# Altium schematic symbol library kmilo17pet-TI_RS232.SchLib: 1272 symbols (part 10 of 37)
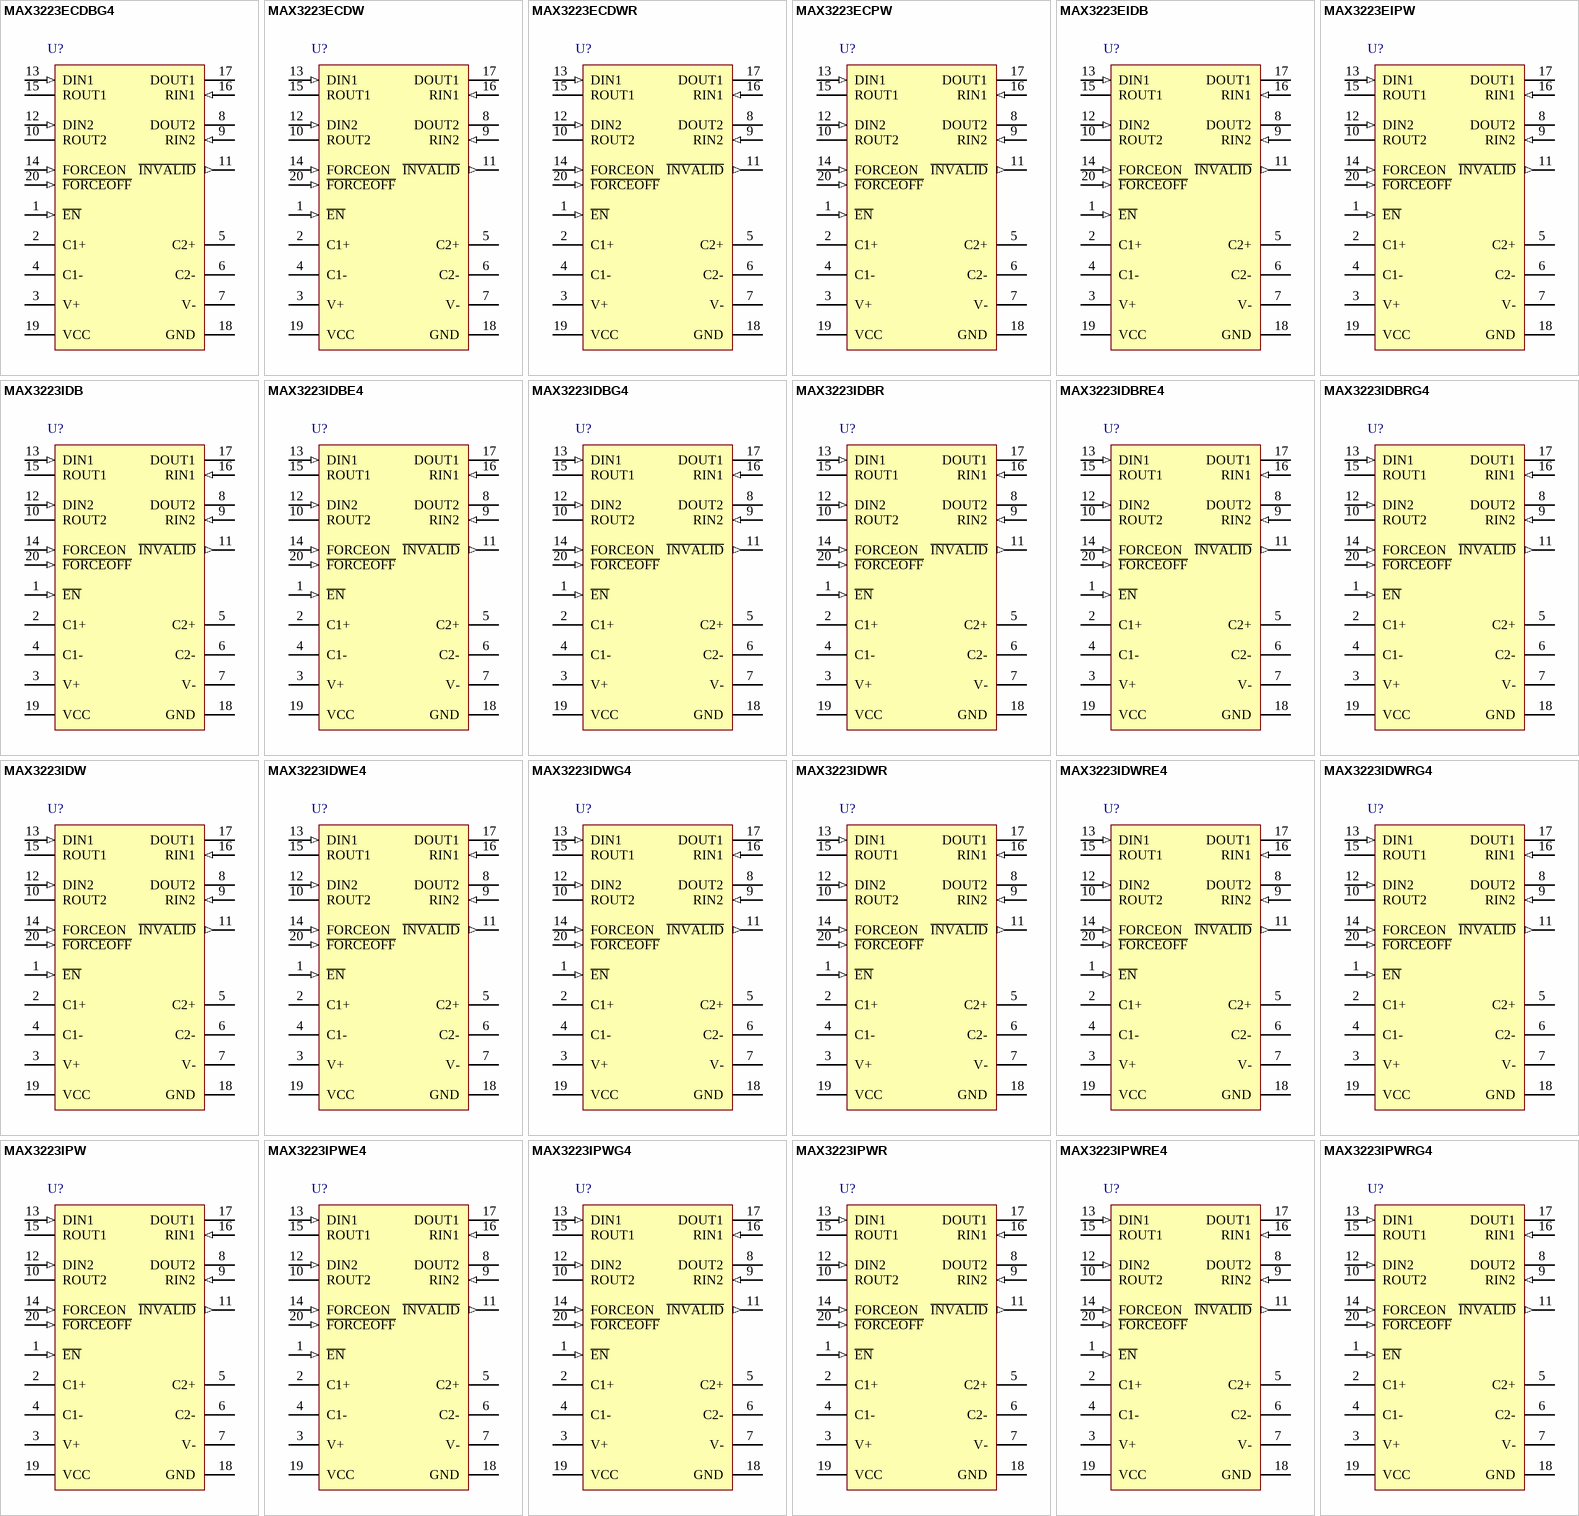
[diagram p63: symbols MAX3223ECDBG4 to MAX3223IPWRG4]

## MAX3223IDWG4
designator U?
3-V to 5.5-V Multichannel RS-232 Line Driver / Receiver with ±15-kV ESD Protection, -40 to 85 degC, 20-Pin SOIC (DW), Green (RoHS & no Sb/Br); Drivers Per Package: 2; Supply Voltage(s)(V): 3.3 or 5.0; ESD HBM(kV): +/-15; ICC(Max)(mA): 1; Single Supply: TRUE; DatasheetVersion: SLLS409K; PackageVersion: revG, Jan-2011; PackageReference: DW20; PackageDescription: 20-Pin Plastic Small Outline Integrated Circuit, 12.8 x 7.5 mm, Pitch 1.27 mm Pitch; SubFamily: RS-232; Receivers Per Package: 2; RS-232: TRUE; ComponentLink1Description: Manufacturer URL; ComponentLink1URL: www.ti.com; ComponentLink2Description: Datasheet; ComponentLink2URL: http://www.ti.com/general/docs/lit/getliterature.tsp?genericPartNumber=MAX3223&fileType=pdf; ComponentLink3Description: Package Specification; ComponentLink3URL: http://www.ti.com/litv/pdf/mpds173a
footprint TI-DW20_N (SOIC, 20-Leads, Body 12.8x7.5mm, Pitch 1.27mm, IPC Medium Density)
footprint TI-DW20_L (SOIC, 20-Leads, Body 12.8x7.5mm, Pitch 1.27mm, IPC High Density)
footprint TI-DW20_M (SOIC, 20-Leads, Body 12.8x7.5mm, Pitch 1.27mm, IPC Low Density)
pins: 1 ~{EN} (in), 2 C1+, 3 V+ (power), 4 C1-, 5 C2+, 6 C2-, 7 V- (power), 8 DOUT2 (hiz), 9 RIN2 (in), 10 ROUT2 (hiz), 11 ~{INVALID} (out), 12 DIN2 (in), 13 DIN1 (in), 14 FORCEON (in), 15 ROUT1 (hiz), 16 RIN1 (in), 17 DOUT1 (hiz), 18 GND (power), 19 VCC (power), 20 ~{FORCEOFF} (in)

## MAX3223IDWR
designator U?
3-V to 5.5-V Multichannel RS-232 Line Driver / Receiver with ±15-kV ESD Protection, -40 to 85 degC, 20-Pin SOIC (DW), Green (RoHS & no Sb/Br); Drivers Per Package: 2; Supply Voltage(s)(V): 3.3 or 5.0; ESD HBM(kV): +/-15; ICC(Max)(mA): 1; Single Supply: TRUE; DatasheetVersion: SLLS409K; PackageVersion: revG, Jan-2011; PackageReference: DW20; PackageDescription: 20-Pin Plastic Small Outline Integrated Circuit, 12.8 x 7.5 mm, Pitch 1.27 mm Pitch; SubFamily: RS-232; Receivers Per Package: 2; RS-232: TRUE; ComponentLink1Description: Manufacturer URL; ComponentLink1URL: www.ti.com; ComponentLink2Description: Datasheet; ComponentLink2URL: http://www.ti.com/general/docs/lit/getliterature.tsp?genericPartNumber=MAX3223&fileType=pdf; ComponentLink3Description: Package Specification; ComponentLink3URL: http://www.ti.com/litv/pdf/mpds173a
footprint TI-DW20_N (SOIC, 20-Leads, Body 12.8x7.5mm, Pitch 1.27mm, IPC Medium Density)
footprint TI-DW20_L (SOIC, 20-Leads, Body 12.8x7.5mm, Pitch 1.27mm, IPC High Density)
footprint TI-DW20_M (SOIC, 20-Leads, Body 12.8x7.5mm, Pitch 1.27mm, IPC Low Density)
pins: 1 ~{EN} (in), 2 C1+, 3 V+ (power), 4 C1-, 5 C2+, 6 C2-, 7 V- (power), 8 DOUT2 (hiz), 9 RIN2 (in), 10 ROUT2 (hiz), 11 ~{INVALID} (out), 12 DIN2 (in), 13 DIN1 (in), 14 FORCEON (in), 15 ROUT1 (hiz), 16 RIN1 (in), 17 DOUT1 (hiz), 18 GND (power), 19 VCC (power), 20 ~{FORCEOFF} (in)

## MAX3223IDWRE4
designator U?
3-V to 5.5-V Multichannel RS-232 Line Driver / Receiver with ±15-kV ESD Protection, -40 to 85 degC, 20-Pin SOIC (DW), Green (RoHS & no Sb/Br); Drivers Per Package: 2; Supply Voltage(s)(V): 3.3 or 5.0; ESD HBM(kV): +/-15; ICC(Max)(mA): 1; Single Supply: TRUE; DatasheetVersion: SLLS409K; PackageVersion: revG, Jan-2011; PackageReference: DW20; PackageDescription: 20-Pin Plastic Small Outline Integrated Circuit, 12.8 x 7.5 mm, Pitch 1.27 mm Pitch; SubFamily: RS-232; Receivers Per Package: 2; RS-232: TRUE; ComponentLink1Description: Manufacturer URL; ComponentLink1URL: www.ti.com; ComponentLink2Description: Datasheet; ComponentLink2URL: http://www.ti.com/general/docs/lit/getliterature.tsp?genericPartNumber=MAX3223&fileType=pdf; ComponentLink3Description: Package Specification; ComponentLink3URL: http://www.ti.com/litv/pdf/mpds173a
footprint TI-DW20_N (SOIC, 20-Leads, Body 12.8x7.5mm, Pitch 1.27mm, IPC Medium Density)
footprint TI-DW20_L (SOIC, 20-Leads, Body 12.8x7.5mm, Pitch 1.27mm, IPC High Density)
footprint TI-DW20_M (SOIC, 20-Leads, Body 12.8x7.5mm, Pitch 1.27mm, IPC Low Density)
pins: 1 ~{EN} (in), 2 C1+, 3 V+ (power), 4 C1-, 5 C2+, 6 C2-, 7 V- (power), 8 DOUT2 (hiz), 9 RIN2 (in), 10 ROUT2 (hiz), 11 ~{INVALID} (out), 12 DIN2 (in), 13 DIN1 (in), 14 FORCEON (in), 15 ROUT1 (hiz), 16 RIN1 (in), 17 DOUT1 (hiz), 18 GND (power), 19 VCC (power), 20 ~{FORCEOFF} (in)

## MAX3223IDWRG4
designator U?
3-V to 5.5-V Multichannel RS-232 Line Driver / Receiver with ±15-kV ESD Protection, -40 to 85 degC, 20-Pin SOIC (DW), Green (RoHS & no Sb/Br); Drivers Per Package: 2; Supply Voltage(s)(V): 3.3 or 5.0; ESD HBM(kV): +/-15; ICC(Max)(mA): 1; Single Supply: TRUE; DatasheetVersion: SLLS409K; PackageVersion: revG, Jan-2011; PackageReference: DW20; PackageDescription: 20-Pin Plastic Small Outline Integrated Circuit, 12.8 x 7.5 mm, Pitch 1.27 mm Pitch; SubFamily: RS-232; Receivers Per Package: 2; RS-232: TRUE; ComponentLink1Description: Manufacturer URL; ComponentLink1URL: www.ti.com; ComponentLink2Description: Datasheet; ComponentLink2URL: http://www.ti.com/general/docs/lit/getliterature.tsp?genericPartNumber=MAX3223&fileType=pdf; ComponentLink3Description: Package Specification; ComponentLink3URL: http://www.ti.com/litv/pdf/mpds173a
footprint TI-DW20_N (SOIC, 20-Leads, Body 12.8x7.5mm, Pitch 1.27mm, IPC Medium Density)
footprint TI-DW20_L (SOIC, 20-Leads, Body 12.8x7.5mm, Pitch 1.27mm, IPC High Density)
footprint TI-DW20_M (SOIC, 20-Leads, Body 12.8x7.5mm, Pitch 1.27mm, IPC Low Density)
pins: 1 ~{EN} (in), 2 C1+, 3 V+ (power), 4 C1-, 5 C2+, 6 C2-, 7 V- (power), 8 DOUT2 (hiz), 9 RIN2 (in), 10 ROUT2 (hiz), 11 ~{INVALID} (out), 12 DIN2 (in), 13 DIN1 (in), 14 FORCEON (in), 15 ROUT1 (hiz), 16 RIN1 (in), 17 DOUT1 (hiz), 18 GND (power), 19 VCC (power), 20 ~{FORCEOFF} (in)

## MAX3223IPW
designator U?
3-V to 5.5-V Multichannel RS-232 Line Driver / Receiver with ±15-kV ESD Protection, -40 to 85 degC, 20-Pin TSSOP (PW), Green (RoHS & no Sb/Br); Drivers Per Package: 2; Supply Voltage(s)(V): 3.3 or 5.0; ESD HBM(kV): +/-15; ICC(Max)(mA): 1; Single Supply: TRUE; DatasheetVersion: SLLS409K; PackageVersion: revG, Feb-2011; PackageReference: PW20; PackageDescription: 20-Pin Plastic Thin Small Outline Package 6.5 x 4.4 mm Body ,0.65 mm Pitch; SubFamily: RS-232; Receivers Per Package: 2; RS-232: TRUE; ComponentLink1Description: Manufacturer URL; ComponentLink1URL: www.ti.com; ComponentLink2Description: Datasheet; ComponentLink2URL: http://www.ti.com/general/docs/lit/getliterature.tsp?genericPartNumber=MAX3223&fileType=pdf; ComponentLink3Description: Package Specification; ComponentLink3URL: http://www.ti.com/litv/pdf/mpds362
footprint TI-PW20_N (TSOP, 20-Leads, Body 6.5x4.4mm, Pitch 0.65mm, IPC Medium Density)
footprint TI-PW20_L (TSOP, 20-Leads, Body 6.5x4.4mm, Pitch 0.65mm, IPC High Density)
footprint TI-PW20_M (TSOP, 20-Leads, Body 6.5x4.4mm, Pitch 0.65mm, IPC Low Density)
pins: 1 ~{EN} (in), 2 C1+, 3 V+ (power), 4 C1-, 5 C2+, 6 C2-, 7 V- (power), 8 DOUT2 (hiz), 9 RIN2 (in), 10 ROUT2 (hiz), 11 ~{INVALID} (out), 12 DIN2 (in), 13 DIN1 (in), 14 FORCEON (in), 15 ROUT1 (hiz), 16 RIN1 (in), 17 DOUT1 (hiz), 18 GND (power), 19 VCC (power), 20 ~{FORCEOFF} (in)

## MAX3223IPWE4
designator U?
3-V to 5.5-V Multichannel RS-232 Line Driver / Receiver with ±15-kV ESD Protection, -40 to 85 degC, 20-Pin TSSOP (PW), Green (RoHS & no Sb/Br); Drivers Per Package: 2; Supply Voltage(s)(V): 3.3 or 5.0; ESD HBM(kV): +/-15; ICC(Max)(mA): 1; Single Supply: TRUE; DatasheetVersion: SLLS409K; PackageVersion: revG, Feb-2011; PackageReference: PW20; PackageDescription: 20-Pin Plastic Thin Small Outline Package 6.5 x 4.4 mm Body ,0.65 mm Pitch; SubFamily: RS-232; Receivers Per Package: 2; RS-232: TRUE; ComponentLink1Description: Manufacturer URL; ComponentLink1URL: www.ti.com; ComponentLink2Description: Datasheet; ComponentLink2URL: http://www.ti.com/general/docs/lit/getliterature.tsp?genericPartNumber=MAX3223&fileType=pdf; ComponentLink3Description: Package Specification; ComponentLink3URL: http://www.ti.com/litv/pdf/mpds362
footprint TI-PW20_N (TSOP, 20-Leads, Body 6.5x4.4mm, Pitch 0.65mm, IPC Medium Density)
footprint TI-PW20_L (TSOP, 20-Leads, Body 6.5x4.4mm, Pitch 0.65mm, IPC High Density)
footprint TI-PW20_M (TSOP, 20-Leads, Body 6.5x4.4mm, Pitch 0.65mm, IPC Low Density)
pins: 1 ~{EN} (in), 2 C1+, 3 V+ (power), 4 C1-, 5 C2+, 6 C2-, 7 V- (power), 8 DOUT2 (hiz), 9 RIN2 (in), 10 ROUT2 (hiz), 11 ~{INVALID} (out), 12 DIN2 (in), 13 DIN1 (in), 14 FORCEON (in), 15 ROUT1 (hiz), 16 RIN1 (in), 17 DOUT1 (hiz), 18 GND (power), 19 VCC (power), 20 ~{FORCEOFF} (in)

## MAX3223IPWG4
designator U?
3-V to 5.5-V Multichannel RS-232 Line Driver / Receiver with ±15-kV ESD Protection, -40 to 85 degC, 20-Pin TSSOP (PW), Green (RoHS & no Sb/Br); Drivers Per Package: 2; Supply Voltage(s)(V): 3.3 or 5.0; ESD HBM(kV): +/-15; ICC(Max)(mA): 1; Single Supply: TRUE; DatasheetVersion: SLLS409K; PackageVersion: revG, Feb-2011; PackageReference: PW20; PackageDescription: 20-Pin Plastic Thin Small Outline Package 6.5 x 4.4 mm Body ,0.65 mm Pitch; SubFamily: RS-232; Receivers Per Package: 2; RS-232: TRUE; ComponentLink1Description: Manufacturer URL; ComponentLink1URL: www.ti.com; ComponentLink2Description: Datasheet; ComponentLink2URL: http://www.ti.com/general/docs/lit/getliterature.tsp?genericPartNumber=MAX3223&fileType=pdf; ComponentLink3Description: Package Specification; ComponentLink3URL: http://www.ti.com/litv/pdf/mpds362
footprint TI-PW20_N (TSOP, 20-Leads, Body 6.5x4.4mm, Pitch 0.65mm, IPC Medium Density)
footprint TI-PW20_L (TSOP, 20-Leads, Body 6.5x4.4mm, Pitch 0.65mm, IPC High Density)
footprint TI-PW20_M (TSOP, 20-Leads, Body 6.5x4.4mm, Pitch 0.65mm, IPC Low Density)
pins: 1 ~{EN} (in), 2 C1+, 3 V+ (power), 4 C1-, 5 C2+, 6 C2-, 7 V- (power), 8 DOUT2 (hiz), 9 RIN2 (in), 10 ROUT2 (hiz), 11 ~{INVALID} (out), 12 DIN2 (in), 13 DIN1 (in), 14 FORCEON (in), 15 ROUT1 (hiz), 16 RIN1 (in), 17 DOUT1 (hiz), 18 GND (power), 19 VCC (power), 20 ~{FORCEOFF} (in)

## MAX3223IPWR
designator U?
3-V to 5.5-V Multichannel RS-232 Line Driver / Receiver with ±15-kV ESD Protection, -40 to 85 degC, 20-Pin TSSOP (PW), Green (RoHS & no Sb/Br); Drivers Per Package: 2; Supply Voltage(s)(V): 3.3 or 5.0; ESD HBM(kV): +/-15; ICC(Max)(mA): 1; Single Supply: TRUE; DatasheetVersion: SLLS409K; PackageVersion: revG, Feb-2011; PackageReference: PW20; PackageDescription: 20-Pin Plastic Thin Small Outline Package 6.5 x 4.4 mm Body ,0.65 mm Pitch; SubFamily: RS-232; Receivers Per Package: 2; RS-232: TRUE; ComponentLink1Description: Manufacturer URL; ComponentLink1URL: www.ti.com; ComponentLink2Description: Datasheet; ComponentLink2URL: http://www.ti.com/general/docs/lit/getliterature.tsp?genericPartNumber=MAX3223&fileType=pdf; ComponentLink3Description: Package Specification; ComponentLink3URL: http://www.ti.com/litv/pdf/mpds362
footprint TI-PW20_N (TSOP, 20-Leads, Body 6.5x4.4mm, Pitch 0.65mm, IPC Medium Density)
footprint TI-PW20_L (TSOP, 20-Leads, Body 6.5x4.4mm, Pitch 0.65mm, IPC High Density)
footprint TI-PW20_M (TSOP, 20-Leads, Body 6.5x4.4mm, Pitch 0.65mm, IPC Low Density)
pins: 1 ~{EN} (in), 2 C1+, 3 V+ (power), 4 C1-, 5 C2+, 6 C2-, 7 V- (power), 8 DOUT2 (hiz), 9 RIN2 (in), 10 ROUT2 (hiz), 11 ~{INVALID} (out), 12 DIN2 (in), 13 DIN1 (in), 14 FORCEON (in), 15 ROUT1 (hiz), 16 RIN1 (in), 17 DOUT1 (hiz), 18 GND (power), 19 VCC (power), 20 ~{FORCEOFF} (in)

## MAX3223IPWRE4
designator U?
3-V to 5.5-V Multichannel RS-232 Line Driver / Receiver with ±15-kV ESD Protection, -40 to 85 degC, 20-Pin TSSOP (PW), Green (RoHS & no Sb/Br); Drivers Per Package: 2; Supply Voltage(s)(V): 3.3 or 5.0; ESD HBM(kV): +/-15; ICC(Max)(mA): 1; Single Supply: TRUE; DatasheetVersion: SLLS409K; PackageVersion: revG, Feb-2011; PackageReference: PW20; PackageDescription: 20-Pin Plastic Thin Small Outline Package 6.5 x 4.4 mm Body ,0.65 mm Pitch; SubFamily: RS-232; Receivers Per Package: 2; RS-232: TRUE; ComponentLink1Description: Manufacturer URL; ComponentLink1URL: www.ti.com; ComponentLink2Description: Datasheet; ComponentLink2URL: http://www.ti.com/general/docs/lit/getliterature.tsp?genericPartNumber=MAX3223&fileType=pdf; ComponentLink3Description: Package Specification; ComponentLink3URL: http://www.ti.com/litv/pdf/mpds362
footprint TI-PW20_N (TSOP, 20-Leads, Body 6.5x4.4mm, Pitch 0.65mm, IPC Medium Density)
footprint TI-PW20_L (TSOP, 20-Leads, Body 6.5x4.4mm, Pitch 0.65mm, IPC High Density)
footprint TI-PW20_M (TSOP, 20-Leads, Body 6.5x4.4mm, Pitch 0.65mm, IPC Low Density)
pins: 1 ~{EN} (in), 2 C1+, 3 V+ (power), 4 C1-, 5 C2+, 6 C2-, 7 V- (power), 8 DOUT2 (hiz), 9 RIN2 (in), 10 ROUT2 (hiz), 11 ~{INVALID} (out), 12 DIN2 (in), 13 DIN1 (in), 14 FORCEON (in), 15 ROUT1 (hiz), 16 RIN1 (in), 17 DOUT1 (hiz), 18 GND (power), 19 VCC (power), 20 ~{FORCEOFF} (in)

## MAX3223IPWRG4
designator U?
3-V to 5.5-V Multichannel RS-232 Line Driver / Receiver with ±15-kV ESD Protection, -40 to 85 degC, 20-Pin TSSOP (PW), Green (RoHS & no Sb/Br); Drivers Per Package: 2; Supply Voltage(s)(V): 3.3 or 5.0; ESD HBM(kV): +/-15; ICC(Max)(mA): 1; Single Supply: TRUE; DatasheetVersion: SLLS409K; PackageVersion: revG, Feb-2011; PackageReference: PW20; PackageDescription: 20-Pin Plastic Thin Small Outline Package 6.5 x 4.4 mm Body ,0.65 mm Pitch; SubFamily: RS-232; Receivers Per Package: 2; RS-232: TRUE; ComponentLink1Description: Manufacturer URL; ComponentLink1URL: www.ti.com; ComponentLink2Description: Datasheet; ComponentLink2URL: http://www.ti.com/general/docs/lit/getliterature.tsp?genericPartNumber=MAX3223&fileType=pdf; ComponentLink3Description: Package Specification; ComponentLink3URL: http://www.ti.com/litv/pdf/mpds362
footprint TI-PW20_N (TSOP, 20-Leads, Body 6.5x4.4mm, Pitch 0.65mm, IPC Medium Density)
footprint TI-PW20_L (TSOP, 20-Leads, Body 6.5x4.4mm, Pitch 0.65mm, IPC High Density)
footprint TI-PW20_M (TSOP, 20-Leads, Body 6.5x4.4mm, Pitch 0.65mm, IPC Low Density)
pins: 1 ~{EN} (in), 2 C1+, 3 V+ (power), 4 C1-, 5 C2+, 6 C2-, 7 V- (power), 8 DOUT2 (hiz), 9 RIN2 (in), 10 ROUT2 (hiz), 11 ~{INVALID} (out), 12 DIN2 (in), 13 DIN1 (in), 14 FORCEON (in), 15 ROUT1 (hiz), 16 RIN1 (in), 17 DOUT1 (hiz), 18 GND (power), 19 VCC (power), 20 ~{FORCEOFF} (in)

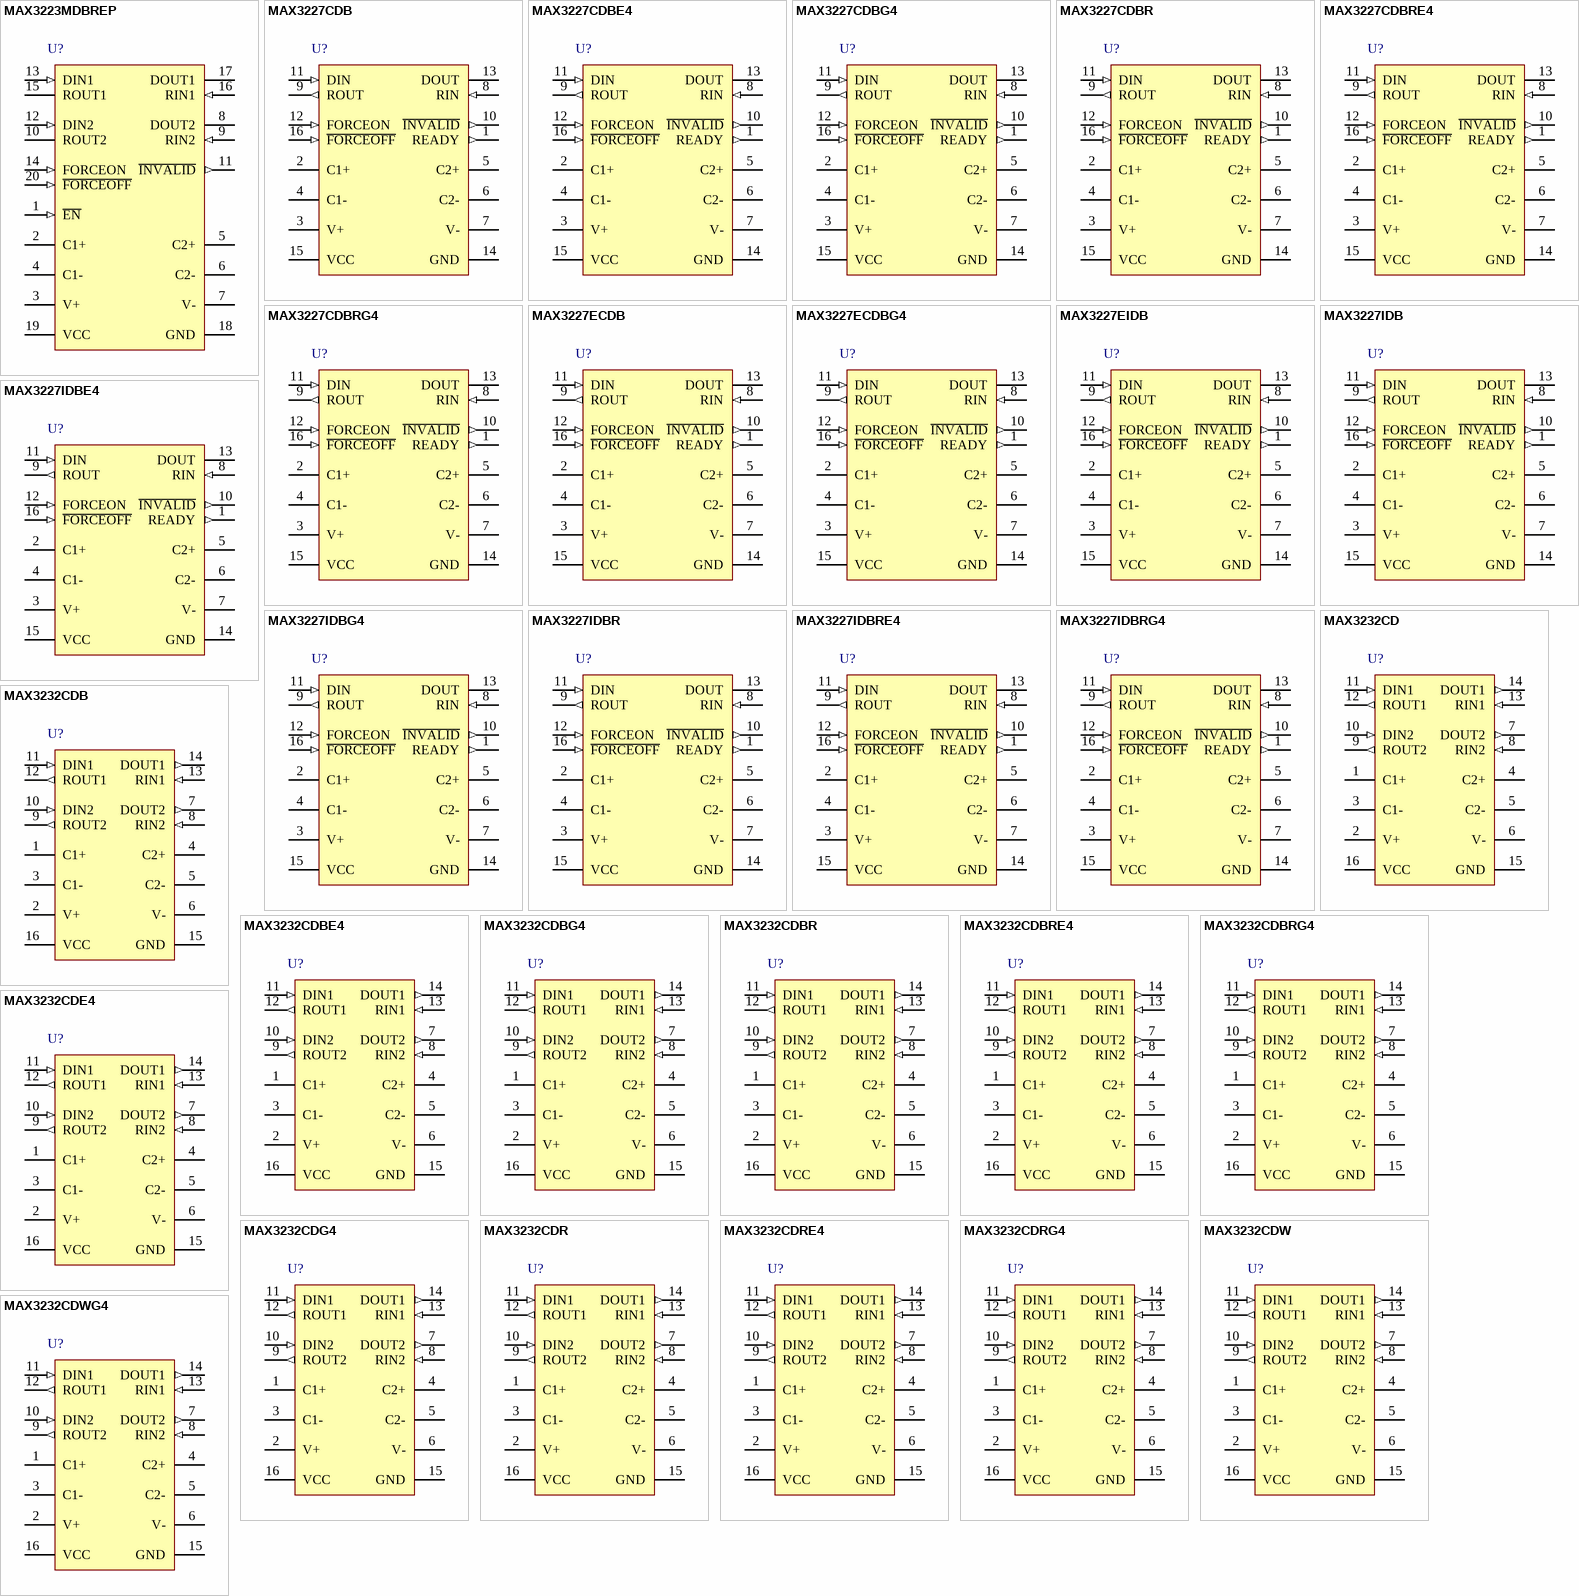
[diagram p14: symbols MAX3223MDBREP to MAX3232CDWG4]

## MAX3223MDBREP
designator U?
3-V to 5.5-V Multichannel RS-232 Line Driver / Receiver with ±15-kV ESD Protection, -55 to 125 degC, 20-Pin SSOP (DB), Green (RoHS & no Sb/Br); Drivers Per Package: 2; Supply Voltage(s)(V): 3.3 or 5.0; ESD HBM(kV): +/-15; ICC(Max)(mA): 1; Single Supply: TRUE; DatasheetVersion: SGLS368; PackageVersion: revE, Dec-2001; PackageReference: DB20; PackageDescription: 20-Pin Plastic Small Outline Package, 7.2 x 5.3 mm Body, 0.65 mm Pitch; SubFamily: RS-232; Receivers Per Package: 2; RS-232: TRUE; ComponentLink1Description: Manufacturer URL; ComponentLink1URL: www.ti.com; ComponentLink2Description: Datasheet; ComponentLink2URL: http://www.ti.com/general/docs/lit/getliterature.tsp?genericPartNumber=MAX3223-EP&fileType=pdf; ComponentLink3Description: Package Specification; ComponentLink3URL: http://www.ti.com/litv/pdf/msso002e
footprint TI-DB20_N (SOP, 20-Leads, Body 7.2x5.3mm, Pitch 0.65mm, IPC Medium Density)
footprint TI-DB20_L (SOP, 20-Leads, Body 7.2x5.3mm, Pitch 0.65mm, IPC High Density)
footprint TI-DB20_M (SOP, 20-Leads, Body 7.2x5.3mm, Pitch 0.65mm, IPC Low Density)
pins: 1 ~{EN} (in), 2 C1+, 3 V+ (power), 4 C1-, 5 C2+, 6 C2-, 7 V- (power), 8 DOUT2 (hiz), 9 RIN2 (in), 10 ROUT2 (hiz), 11 ~{INVALID} (out), 12 DIN2 (in), 13 DIN1 (in), 14 FORCEON (in), 15 ROUT1 (hiz), 16 RIN1 (in), 17 DOUT1 (hiz), 18 GND (power), 19 VCC (power), 20 ~{FORCEOFF} (in)

## MAX3227CDB
designator U?
3-V to 5.5-V Single-Channel RS-232 Line Driver / Receiver with ±15-kV ESD Protection, 0 to 70 degC, 16-Pin SSOP (DB), Green (RoHS & no Sb/Br); Drivers Per Package: 1; Supply Voltage(s)(V): 3.3 or 5.0; ESD HBM(kV): +/-15; ICC(Max)(mA): 2; Single Supply: TRUE; DatasheetVersion: SLLS673A; PackageVersion: revE, Dec-2001; PackageReference: DB16; PackageDescription: 16-Pin Plastic Small Outline Package, 6.2 x 5.3 mm Body, 0.65 mm Pitch; SubFamily: RS-232; Receivers Per Package: 1; RS-232: TRUE; ComponentLink1Description: Manufacturer URL; ComponentLink1URL: www.ti.com; ComponentLink2Description: Datasheet; ComponentLink2URL: http://www.ti.com/general/docs/lit/getliterature.tsp?genericPartNumber=MAX3227&fileType=pdf; ComponentLink3Description: Package Specification; ComponentLink3URL: http://www.ti.com/litv/pdf/msso002e
footprint TI-DB16_N (SOP, 16-Leads, Body 6.2x5.3mm, Pitch 0.65mm, IPC Medium Density)
footprint TI-DB16_L (SOP, 16-Leads, Body 6.2x5.3mm, Pitch 0.65mm, IPC High Density)
footprint TI-DB16_M (SOP, 16-Leads, Body 6.2x5.3mm, Pitch 0.65mm, IPC Low Density)
pins: 1 READY (out) "Ready to transmit output, active high. READY is enabled high when V- goes below -3.5 V and the device is ready to transmit.", 2 C1+ "Positive terminal of voltage-doubler charge-pump capacitor", 3 V+ (power) "+2 × VCC generated by the charge pump", 4 C1- "Negative terminal of voltage-doubler charge-pump capacitor", 5 C2+ "Positive terminal of inverting charge-pump capacitor", 6 C2- "Negative terminal of inverting charge-pump capacitor", 7 V- (power) "-2 × VCC generated by the charge pump", 8 RIN (in) "RS-232 receiver input", 9 ROUT (out) "CMOS receiver output", 10 ~{INVALID} (out) "Valid signal detector output, active low. A logic high indicates that a valid RS-232 level is present on a receiver input", 11 DIN (in) "CMOS driver input", 12 FORCEON (in) "Force-on input, active high. Drive high to override powerdown, keeping drivers and receivers on (FORCEOFF must be high) (see Function Table).", 13 DOUT (hiz) "RS-232 driver output", 14 GND (power) "Ground", 15 VCC (power) "3-V to 5.5-V single-supply voltage", 16 ~{FORCEOFF} (in) "Force-off input, active low. Drive low to shut down drivers, receivers, and charge pump. This overrides auto shutdown and FORCEON (see Function Table)."

## MAX3227CDBE4
designator U?
3-V to 5.5-V Single-Channel RS-232 Line Driver / Receiver with ±15-kV ESD Protection, 0 to 70 degC, 16-Pin SSOP (DB), Green (RoHS & no Sb/Br); Drivers Per Package: 1; Supply Voltage(s)(V): 3.3 or 5.0; ESD HBM(kV): +/-15; ICC(Max)(mA): 2; Single Supply: TRUE; DatasheetVersion: SLLS673A; PackageVersion: revE, Dec-2001; PackageReference: DB16; PackageDescription: 16-Pin Plastic Small Outline Package, 6.2 x 5.3 mm Body, 0.65 mm Pitch; SubFamily: RS-232; Receivers Per Package: 1; RS-232: TRUE; ComponentLink1Description: Manufacturer URL; ComponentLink1URL: www.ti.com; ComponentLink2Description: Datasheet; ComponentLink2URL: http://www.ti.com/general/docs/lit/getliterature.tsp?genericPartNumber=MAX3227&fileType=pdf; ComponentLink3Description: Package Specification; ComponentLink3URL: http://www.ti.com/litv/pdf/msso002e
footprint TI-DB16_N (SOP, 16-Leads, Body 6.2x5.3mm, Pitch 0.65mm, IPC Medium Density)
footprint TI-DB16_L (SOP, 16-Leads, Body 6.2x5.3mm, Pitch 0.65mm, IPC High Density)
footprint TI-DB16_M (SOP, 16-Leads, Body 6.2x5.3mm, Pitch 0.65mm, IPC Low Density)
pins: 1 READY (out) "Ready to transmit output, active high. READY is enabled high when V- goes below -3.5 V and the device is ready to transmit.", 2 C1+ "Positive terminal of voltage-doubler charge-pump capacitor", 3 V+ (power) "+2 × VCC generated by the charge pump", 4 C1- "Negative terminal of voltage-doubler charge-pump capacitor", 5 C2+ "Positive terminal of inverting charge-pump capacitor", 6 C2- "Negative terminal of inverting charge-pump capacitor", 7 V- (power) "-2 × VCC generated by the charge pump", 8 RIN (in) "RS-232 receiver input", 9 ROUT (out) "CMOS receiver output", 10 ~{INVALID} (out) "Valid signal detector output, active low. A logic high indicates that a valid RS-232 level is present on a receiver input", 11 DIN (in) "CMOS driver input", 12 FORCEON (in) "Force-on input, active high. Drive high to override powerdown, keeping drivers and receivers on (FORCEOFF must be high) (see Function Table).", 13 DOUT (hiz) "RS-232 driver output", 14 GND (power) "Ground", 15 VCC (power) "3-V to 5.5-V single-supply voltage", 16 ~{FORCEOFF} (in) "Force-off input, active low. Drive low to shut down drivers, receivers, and charge pump. This overrides auto shutdown and FORCEON (see Function Table)."

## MAX3227CDBG4
designator U?
3-V to 5.5-V Single-Channel RS-232 Line Driver / Receiver with ±15-kV ESD Protection, 0 to 70 degC, 16-Pin SSOP (DB), Green (RoHS & no Sb/Br); Drivers Per Package: 1; Supply Voltage(s)(V): 3.3 or 5.0; ESD HBM(kV): +/-15; ICC(Max)(mA): 2; Single Supply: TRUE; DatasheetVersion: SLLS673A; PackageVersion: revE, Dec-2001; PackageReference: DB16; PackageDescription: 16-Pin Plastic Small Outline Package, 6.2 x 5.3 mm Body, 0.65 mm Pitch; SubFamily: RS-232; Receivers Per Package: 1; RS-232: TRUE; ComponentLink1Description: Manufacturer URL; ComponentLink1URL: www.ti.com; ComponentLink2Description: Datasheet; ComponentLink2URL: http://www.ti.com/general/docs/lit/getliterature.tsp?genericPartNumber=MAX3227&fileType=pdf; ComponentLink3Description: Package Specification; ComponentLink3URL: http://www.ti.com/litv/pdf/msso002e
footprint TI-DB16_N (SOP, 16-Leads, Body 6.2x5.3mm, Pitch 0.65mm, IPC Medium Density)
footprint TI-DB16_L (SOP, 16-Leads, Body 6.2x5.3mm, Pitch 0.65mm, IPC High Density)
footprint TI-DB16_M (SOP, 16-Leads, Body 6.2x5.3mm, Pitch 0.65mm, IPC Low Density)
pins: 1 READY (out) "Ready to transmit output, active high. READY is enabled high when V- goes below -3.5 V and the device is ready to transmit.", 2 C1+ "Positive terminal of voltage-doubler charge-pump capacitor", 3 V+ (power) "+2 × VCC generated by the charge pump", 4 C1- "Negative terminal of voltage-doubler charge-pump capacitor", 5 C2+ "Positive terminal of inverting charge-pump capacitor", 6 C2- "Negative terminal of inverting charge-pump capacitor", 7 V- (power) "-2 × VCC generated by the charge pump", 8 RIN (in) "RS-232 receiver input", 9 ROUT (out) "CMOS receiver output", 10 ~{INVALID} (out) "Valid signal detector output, active low. A logic high indicates that a valid RS-232 level is present on a receiver input", 11 DIN (in) "CMOS driver input", 12 FORCEON (in) "Force-on input, active high. Drive high to override powerdown, keeping drivers and receivers on (FORCEOFF must be high) (see Function Table).", 13 DOUT (hiz) "RS-232 driver output", 14 GND (power) "Ground", 15 VCC (power) "3-V to 5.5-V single-supply voltage", 16 ~{FORCEOFF} (in) "Force-off input, active low. Drive low to shut down drivers, receivers, and charge pump. This overrides auto shutdown and FORCEON (see Function Table)."

## MAX3227CDBR
designator U?
3-V to 5.5-V Single-Channel RS-232 Line Driver / Receiver with ±15-kV ESD Protection, 0 to 70 degC, 16-Pin SSOP (DB), Green (RoHS & no Sb/Br); Drivers Per Package: 1; Supply Voltage(s)(V): 3.3 or 5.0; ESD HBM(kV): +/-15; ICC(Max)(mA): 2; Single Supply: TRUE; DatasheetVersion: SLLS673A; PackageVersion: revE, Dec-2001; PackageReference: DB16; PackageDescription: 16-Pin Plastic Small Outline Package, 6.2 x 5.3 mm Body, 0.65 mm Pitch; SubFamily: RS-232; Receivers Per Package: 1; RS-232: TRUE; ComponentLink1Description: Manufacturer URL; ComponentLink1URL: www.ti.com; ComponentLink2Description: Datasheet; ComponentLink2URL: http://www.ti.com/general/docs/lit/getliterature.tsp?genericPartNumber=MAX3227&fileType=pdf; ComponentLink3Description: Package Specification; ComponentLink3URL: http://www.ti.com/litv/pdf/msso002e
footprint TI-DB16_N (SOP, 16-Leads, Body 6.2x5.3mm, Pitch 0.65mm, IPC Medium Density)
footprint TI-DB16_L (SOP, 16-Leads, Body 6.2x5.3mm, Pitch 0.65mm, IPC High Density)
footprint TI-DB16_M (SOP, 16-Leads, Body 6.2x5.3mm, Pitch 0.65mm, IPC Low Density)
pins: 1 READY (out) "Ready to transmit output, active high. READY is enabled high when V- goes below -3.5 V and the device is ready to transmit.", 2 C1+ "Positive terminal of voltage-doubler charge-pump capacitor", 3 V+ (power) "+2 × VCC generated by the charge pump", 4 C1- "Negative terminal of voltage-doubler charge-pump capacitor", 5 C2+ "Positive terminal of inverting charge-pump capacitor", 6 C2- "Negative terminal of inverting charge-pump capacitor", 7 V- (power) "-2 × VCC generated by the charge pump", 8 RIN (in) "RS-232 receiver input", 9 ROUT (out) "CMOS receiver output", 10 ~{INVALID} (out) "Valid signal detector output, active low. A logic high indicates that a valid RS-232 level is present on a receiver input", 11 DIN (in) "CMOS driver input", 12 FORCEON (in) "Force-on input, active high. Drive high to override powerdown, keeping drivers and receivers on (FORCEOFF must be high) (see Function Table).", 13 DOUT (hiz) "RS-232 driver output", 14 GND (power) "Ground", 15 VCC (power) "3-V to 5.5-V single-supply voltage", 16 ~{FORCEOFF} (in) "Force-off input, active low. Drive low to shut down drivers, receivers, and charge pump. This overrides auto shutdown and FORCEON (see Function Table)."

## MAX3227CDBRE4
designator U?
3-V to 5.5-V Single-Channel RS-232 Line Driver / Receiver with ±15-kV ESD Protection, 0 to 70 degC, 16-Pin SSOP (DB), Green (RoHS & no Sb/Br); Drivers Per Package: 1; Supply Voltage(s)(V): 3.3 or 5.0; ESD HBM(kV): +/-15; ICC(Max)(mA): 2; Single Supply: TRUE; DatasheetVersion: SLLS673A; PackageVersion: revE, Dec-2001; PackageReference: DB16; PackageDescription: 16-Pin Plastic Small Outline Package, 6.2 x 5.3 mm Body, 0.65 mm Pitch; SubFamily: RS-232; Receivers Per Package: 1; RS-232: TRUE; ComponentLink1Description: Manufacturer URL; ComponentLink1URL: www.ti.com; ComponentLink2Description: Datasheet; ComponentLink2URL: http://www.ti.com/general/docs/lit/getliterature.tsp?genericPartNumber=MAX3227&fileType=pdf; ComponentLink3Description: Package Specification; ComponentLink3URL: http://www.ti.com/litv/pdf/msso002e
footprint TI-DB16_N (SOP, 16-Leads, Body 6.2x5.3mm, Pitch 0.65mm, IPC Medium Density)
footprint TI-DB16_L (SOP, 16-Leads, Body 6.2x5.3mm, Pitch 0.65mm, IPC High Density)
footprint TI-DB16_M (SOP, 16-Leads, Body 6.2x5.3mm, Pitch 0.65mm, IPC Low Density)
pins: 1 READY (out) "Ready to transmit output, active high. READY is enabled high when V- goes below -3.5 V and the device is ready to transmit.", 2 C1+ "Positive terminal of voltage-doubler charge-pump capacitor", 3 V+ (power) "+2 × VCC generated by the charge pump", 4 C1- "Negative terminal of voltage-doubler charge-pump capacitor", 5 C2+ "Positive terminal of inverting charge-pump capacitor", 6 C2- "Negative terminal of inverting charge-pump capacitor", 7 V- (power) "-2 × VCC generated by the charge pump", 8 RIN (in) "RS-232 receiver input", 9 ROUT (out) "CMOS receiver output", 10 ~{INVALID} (out) "Valid signal detector output, active low. A logic high indicates that a valid RS-232 level is present on a receiver input", 11 DIN (in) "CMOS driver input", 12 FORCEON (in) "Force-on input, active high. Drive high to override powerdown, keeping drivers and receivers on (FORCEOFF must be high) (see Function Table).", 13 DOUT (hiz) "RS-232 driver output", 14 GND (power) "Ground", 15 VCC (power) "3-V to 5.5-V single-supply voltage", 16 ~{FORCEOFF} (in) "Force-off input, active low. Drive low to shut down drivers, receivers, and charge pump. This overrides auto shutdown and FORCEON (see Function Table)."

## MAX3227CDBRG4
designator U?
3-V to 5.5-V Single-Channel RS-232 Line Driver / Receiver with ±15-kV ESD Protection, 0 to 70 degC, 16-Pin SSOP (DB), Green (RoHS & no Sb/Br); Drivers Per Package: 1; Supply Voltage(s)(V): 3.3 or 5.0; ESD HBM(kV): +/-15; ICC(Max)(mA): 2; Single Supply: TRUE; DatasheetVersion: SLLS673A; PackageVersion: revE, Dec-2001; PackageReference: DB16; PackageDescription: 16-Pin Plastic Small Outline Package, 6.2 x 5.3 mm Body, 0.65 mm Pitch; SubFamily: RS-232; Receivers Per Package: 1; RS-232: TRUE; ComponentLink1Description: Manufacturer URL; ComponentLink1URL: www.ti.com; ComponentLink2Description: Datasheet; ComponentLink2URL: http://www.ti.com/general/docs/lit/getliterature.tsp?genericPartNumber=MAX3227&fileType=pdf; ComponentLink3Description: Package Specification; ComponentLink3URL: http://www.ti.com/litv/pdf/msso002e
footprint TI-DB16_N (SOP, 16-Leads, Body 6.2x5.3mm, Pitch 0.65mm, IPC Medium Density)
footprint TI-DB16_L (SOP, 16-Leads, Body 6.2x5.3mm, Pitch 0.65mm, IPC High Density)
footprint TI-DB16_M (SOP, 16-Leads, Body 6.2x5.3mm, Pitch 0.65mm, IPC Low Density)
pins: 1 READY (out) "Ready to transmit output, active high. READY is enabled high when V- goes below -3.5 V and the device is ready to transmit.", 2 C1+ "Positive terminal of voltage-doubler charge-pump capacitor", 3 V+ (power) "+2 × VCC generated by the charge pump", 4 C1- "Negative terminal of voltage-doubler charge-pump capacitor", 5 C2+ "Positive terminal of inverting charge-pump capacitor", 6 C2- "Negative terminal of inverting charge-pump capacitor", 7 V- (power) "-2 × VCC generated by the charge pump", 8 RIN (in) "RS-232 receiver input", 9 ROUT (out) "CMOS receiver output", 10 ~{INVALID} (out) "Valid signal detector output, active low. A logic high indicates that a valid RS-232 level is present on a receiver input", 11 DIN (in) "CMOS driver input", 12 FORCEON (in) "Force-on input, active high. Drive high to override powerdown, keeping drivers and receivers on (FORCEOFF must be high) (see Function Table).", 13 DOUT (hiz) "RS-232 driver output", 14 GND (power) "Ground", 15 VCC (power) "3-V to 5.5-V single-supply voltage", 16 ~{FORCEOFF} (in) "Force-off input, active low. Drive low to shut down drivers, receivers, and charge pump. This overrides auto shutdown and FORCEON (see Function Table)."

## MAX3227ECDB
designator U?
3-V to 5.5-V Single-Channel RS-232 Line Driver / Receiver with ±15-kV IEC ESD Protection, 0 to 70 degC , 16-Pin SSOP (DB), Green (RoHS & no Sb/Br); Drivers Per Package: 1; Supply Voltage(s)(V): 3.3 or 5.0; ESD HBM(kV): +/-15; ICC(Max)(mA): 2; Single Supply: TRUE; DatasheetVersion: SLLS715A; PackageVersion: revE, Dec-2001; PackageReference: DB16; PackageDescription: 16-Pin Plastic Small Outline Package, 6.2 x 5.3 mm Body, 0.65 mm Pitch; SubFamily: RS-232; Receivers Per Package: 1; RS-232: TRUE; IEC-61000-4-2 SUPPORT: TRUE; ComponentLink1Description: Manufacturer URL; ComponentLink1URL: www.ti.com; ComponentLink2Description: Datasheet; ComponentLink2URL: http://www.ti.com/general/docs/lit/getliterature.tsp?genericPartNumber=MAX3227E&fileType=pdf; ComponentLink3Description: Package Specification; ComponentLink3URL: http://www.ti.com/litv/pdf/msso002e
footprint TI-DB16_N (SOP, 16-Leads, Body 6.2x5.3mm, Pitch 0.65mm, IPC Medium Density)
footprint TI-DB16_L (SOP, 16-Leads, Body 6.2x5.3mm, Pitch 0.65mm, IPC High Density)
footprint TI-DB16_M (SOP, 16-Leads, Body 6.2x5.3mm, Pitch 0.65mm, IPC Low Density)
pins: 1 READY (out) "Ready to transmit output, active high. READY is enabled high when V- goes below –3.5 V and the device is ready to transmit.", 2 C1+ "Positive terminal of voltage-doubler charge-pump capacitor", 3 V+ (power) "2xVCC generated by the charge pump", 4 C1- "Negative terminal of voltage-doubler charge-pump capacitor", 5 C2+ "Positive terminal of inverting charge-pump capacitor", 6 C2- "Negative terminal of inverting charge-pump capacitor", 7 V- (power) "-2xVCC generated by the charge pump", 8 RIN (in) "RS-232 receiver input", 9 ROUT (out) "CMOS receiver output", 10 ~{INVALID} (out) "Valid signal detector output, active low. A logic high indicates that a valid RS-232 level is present on a receiver input.", 11 DIN (in) "CMOS driver input", 12 FORCEON (in) "Force-on input, active high. Drive high to override powerdown, keeping drivers and receivers on (FORCEOFF must be high) (see Function Table).", 13 DOUT (hiz) "RS-232 driver output", 14 GND (power) "Ground", 15 VCC (power) "3-V to 5.5-V single-supply voltage", 16 ~{FORCEOFF} (in) "Force-off input, active low. Drive low to shut down drivers, receivers, and charge pump. This overrides auto-shutdown and FORCEON (see Function Table)."

## MAX3227ECDBG4
designator U?
3-V to 5.5-V Single-Channel RS-232 Line Driver / Receiver with ±15-kV IEC ESD Protection, 0 to 70 degC, 16-Pin SSOP (DB), Green (RoHS & no Sb/Br); Drivers Per Package: 1; Supply Voltage(s)(V): 3.3 or 5.0; ESD HBM(kV): +/-15; ICC(Max)(mA): 2; Single Supply: TRUE; DatasheetVersion: SLLS715A; PackageVersion: revE, Dec-2001; PackageReference: DB16; PackageDescription: 16-Pin Plastic Small Outline Package, 6.2 x 5.3 mm Body, 0.65 mm Pitch; SubFamily: RS-232; Receivers Per Package: 1; RS-232: TRUE; IEC-61000-4-2 SUPPORT: TRUE; ComponentLink1Description: Manufacturer URL; ComponentLink1URL: www.ti.com; ComponentLink2Description: Datasheet; ComponentLink2URL: http://www.ti.com/general/docs/lit/getliterature.tsp?genericPartNumber=MAX3227E&fileType=pdf; ComponentLink3Description: Package Specification; ComponentLink3URL: http://www.ti.com/litv/pdf/msso002e
footprint TI-DB16_N (SOP, 16-Leads, Body 6.2x5.3mm, Pitch 0.65mm, IPC Medium Density)
footprint TI-DB16_L (SOP, 16-Leads, Body 6.2x5.3mm, Pitch 0.65mm, IPC High Density)
footprint TI-DB16_M (SOP, 16-Leads, Body 6.2x5.3mm, Pitch 0.65mm, IPC Low Density)
pins: 1 READY (out) "Ready to transmit output, active high. READY is enabled high when V- goes below –3.5 V and the device is ready to transmit.", 2 C1+ "Positive terminal of voltage-doubler charge-pump capacitor", 3 V+ (power) "2xVCC generated by the charge pump", 4 C1- "Negative terminal of voltage-doubler charge-pump capacitor", 5 C2+ "Positive terminal of inverting charge-pump capacitor", 6 C2- "Negative terminal of inverting charge-pump capacitor", 7 V- (power) "-2xVCC generated by the charge pump", 8 RIN (in) "RS-232 receiver input", 9 ROUT (out) "CMOS receiver output", 10 ~{INVALID} (out) "Valid signal detector output, active low. A logic high indicates that a valid RS-232 level is present on a receiver input.", 11 DIN (in) "CMOS driver input", 12 FORCEON (in) "Force-on input, active high. Drive high to override powerdown, keeping drivers and receivers on (FORCEOFF must be high) (see Function Table).", 13 DOUT (hiz) "RS-232 driver output", 14 GND (power) "Ground", 15 VCC (power) "3-V to 5.5-V single-supply voltage", 16 ~{FORCEOFF} (in) "Force-off input, active low. Drive low to shut down drivers, receivers, and charge pump. This overrides auto-shutdown and FORCEON (see Function Table)."

## MAX3227EIDB
designator U?
3-V to 5.5-V Single-Channel RS-232 Line Driver / Receiver with ±15-kV IEC ESD Protection, -40 to 85 degC, 16-Pin SSOP (DB), Green (RoHS & no Sb/Br); Drivers Per Package: 1; Supply Voltage(s)(V): 3.3 or 5.0; ESD HBM(kV): +/-15; ICC(Max)(mA): 2; Single Supply: TRUE; DatasheetVersion: SLLS715A; PackageVersion: revE, Dec-2001; PackageReference: DB16; PackageDescription: 16-Pin Plastic Small Outline Package, 6.2 x 5.3 mm Body, 0.65 mm Pitch; SubFamily: RS-232; Receivers Per Package: 1; RS-232: TRUE; IEC-61000-4-2 SUPPORT: TRUE; ComponentLink1Description: Manufacturer URL; ComponentLink1URL: www.ti.com; ComponentLink2Description: Datasheet; ComponentLink2URL: http://www.ti.com/general/docs/lit/getliterature.tsp?genericPartNumber=MAX3227E&fileType=pdf; ComponentLink3Description: Package Specification; ComponentLink3URL: http://www.ti.com/litv/pdf/msso002e
footprint TI-DB16_N (SOP, 16-Leads, Body 6.2x5.3mm, Pitch 0.65mm, IPC Medium Density)
footprint TI-DB16_L (SOP, 16-Leads, Body 6.2x5.3mm, Pitch 0.65mm, IPC High Density)
footprint TI-DB16_M (SOP, 16-Leads, Body 6.2x5.3mm, Pitch 0.65mm, IPC Low Density)
pins: 1 READY (out) "Ready to transmit output, active high. READY is enabled high when V- goes below –3.5 V and the device is ready to transmit.", 2 C1+ "Positive terminal of voltage-doubler charge-pump capacitor", 3 V+ (power) "2xVCC generated by the charge pump", 4 C1- "Negative terminal of voltage-doubler charge-pump capacitor", 5 C2+ "Positive terminal of inverting charge-pump capacitor", 6 C2- "Negative terminal of inverting charge-pump capacitor", 7 V- (power) "-2xVCC generated by the charge pump", 8 RIN (in) "RS-232 receiver input", 9 ROUT (out) "CMOS receiver output", 10 ~{INVALID} (out) "Valid signal detector output, active low. A logic high indicates that a valid RS-232 level is present on a receiver input.", 11 DIN (in) "CMOS driver input", 12 FORCEON (in) "Force-on input, active high. Drive high to override powerdown, keeping drivers and receivers on (FORCEOFF must be high) (see Function Table).", 13 DOUT (hiz) "RS-232 driver output", 14 GND (power) "Ground", 15 VCC (power) "3-V to 5.5-V single-supply voltage", 16 ~{FORCEOFF} (in) "Force-off input, active low. Drive low to shut down drivers, receivers, and charge pump. This overrides auto-shutdown and FORCEON (see Function Table)."

## MAX3227IDB
designator U?
3-V to 5.5-V Single-Channel RS-232 Line Driver / Receiver with ±15-kV ESD Protection, -40 to 85 degC, 16-Pin SSOP (DB), Green (RoHS & no Sb/Br); Drivers Per Package: 1; Supply Voltage(s)(V): 3.3 or 5.0; ESD HBM(kV): +/-15; ICC(Max)(mA): 2; Single Supply: TRUE; DatasheetVersion: SLLS673A; PackageVersion: revE, Dec-2001; PackageReference: DB16; PackageDescription: 16-Pin Plastic Small Outline Package, 6.2 x 5.3 mm Body, 0.65 mm Pitch; SubFamily: RS-232; Receivers Per Package: 1; RS-232: TRUE; ComponentLink1Description: Manufacturer URL; ComponentLink1URL: www.ti.com; ComponentLink2Description: Datasheet; ComponentLink2URL: http://www.ti.com/general/docs/lit/getliterature.tsp?genericPartNumber=MAX3227&fileType=pdf; ComponentLink3Description: Package Specification; ComponentLink3URL: http://www.ti.com/litv/pdf/msso002e
footprint TI-DB16_N (SOP, 16-Leads, Body 6.2x5.3mm, Pitch 0.65mm, IPC Medium Density)
footprint TI-DB16_L (SOP, 16-Leads, Body 6.2x5.3mm, Pitch 0.65mm, IPC High Density)
footprint TI-DB16_M (SOP, 16-Leads, Body 6.2x5.3mm, Pitch 0.65mm, IPC Low Density)
pins: 1 READY (out) "Ready to transmit output, active high. READY is enabled high when V- goes below -3.5 V and the device is ready to transmit.", 2 C1+ "Positive terminal of voltage-doubler charge-pump capacitor", 3 V+ (power) "+2 × VCC generated by the charge pump", 4 C1- "Negative terminal of voltage-doubler charge-pump capacitor", 5 C2+ "Positive terminal of inverting charge-pump capacitor", 6 C2- "Negative terminal of inverting charge-pump capacitor", 7 V- (power) "-2 × VCC generated by the charge pump", 8 RIN (in) "RS-232 receiver input", 9 ROUT (out) "CMOS receiver output", 10 ~{INVALID} (out) "Valid signal detector output, active low. A logic high indicates that a valid RS-232 level is present on a receiver input", 11 DIN (in) "CMOS driver input", 12 FORCEON (in) "Force-on input, active high. Drive high to override powerdown, keeping drivers and receivers on (FORCEOFF must be high) (see Function Table).", 13 DOUT (hiz) "RS-232 driver output", 14 GND (power) "Ground", 15 VCC (power) "3-V to 5.5-V single-supply voltage", 16 ~{FORCEOFF} (in) "Force-off input, active low. Drive low to shut down drivers, receivers, and charge pump. This overrides auto shutdown and FORCEON (see Function Table)."

## MAX3227IDBE4
designator U?
3-V to 5.5-V Single-Channel RS-232 Line Driver / Receiver with ±15-kV ESD Protection, -40 to 85 degC, 16-Pin SSOP (DB), Green (RoHS & no Sb/Br); Drivers Per Package: 1; Supply Voltage(s)(V): 3.3 or 5.0; ESD HBM(kV): +/-15; ICC(Max)(mA): 2; Single Supply: TRUE; DatasheetVersion: SLLS673A; PackageVersion: revE, Dec-2001; PackageReference: DB16; PackageDescription: 16-Pin Plastic Small Outline Package, 6.2 x 5.3 mm Body, 0.65 mm Pitch; SubFamily: RS-232; Receivers Per Package: 1; RS-232: TRUE; ComponentLink1Description: Manufacturer URL; ComponentLink1URL: www.ti.com; ComponentLink2Description: Datasheet; ComponentLink2URL: http://www.ti.com/general/docs/lit/getliterature.tsp?genericPartNumber=MAX3227&fileType=pdf; ComponentLink3Description: Package Specification; ComponentLink3URL: http://www.ti.com/litv/pdf/msso002e
footprint TI-DB16_N (SOP, 16-Leads, Body 6.2x5.3mm, Pitch 0.65mm, IPC Medium Density)
footprint TI-DB16_L (SOP, 16-Leads, Body 6.2x5.3mm, Pitch 0.65mm, IPC High Density)
footprint TI-DB16_M (SOP, 16-Leads, Body 6.2x5.3mm, Pitch 0.65mm, IPC Low Density)
pins: 1 READY (out) "Ready to transmit output, active high. READY is enabled high when V- goes below -3.5 V and the device is ready to transmit.", 2 C1+ "Positive terminal of voltage-doubler charge-pump capacitor", 3 V+ (power) "+2 × VCC generated by the charge pump", 4 C1- "Negative terminal of voltage-doubler charge-pump capacitor", 5 C2+ "Positive terminal of inverting charge-pump capacitor", 6 C2- "Negative terminal of inverting charge-pump capacitor", 7 V- (power) "-2 × VCC generated by the charge pump", 8 RIN (in) "RS-232 receiver input", 9 ROUT (out) "CMOS receiver output", 10 ~{INVALID} (out) "Valid signal detector output, active low. A logic high indicates that a valid RS-232 level is present on a receiver input", 11 DIN (in) "CMOS driver input", 12 FORCEON (in) "Force-on input, active high. Drive high to override powerdown, keeping drivers and receivers on (FORCEOFF must be high) (see Function Table).", 13 DOUT (hiz) "RS-232 driver output", 14 GND (power) "Ground", 15 VCC (power) "3-V to 5.5-V single-supply voltage", 16 ~{FORCEOFF} (in) "Force-off input, active low. Drive low to shut down drivers, receivers, and charge pump. This overrides auto shutdown and FORCEON (see Function Table)."

## MAX3227IDBG4
designator U?
3-V to 5.5-V Single-Channel RS-232 Line Driver / Receiver with ±15-kV ESD Protection, -40 to 85 degC, 16-Pin SSOP (DB), Green (RoHS & no Sb/Br); Drivers Per Package: 1; Supply Voltage(s)(V): 3.3 or 5.0; ESD HBM(kV): +/-15; ICC(Max)(mA): 2; Single Supply: TRUE; DatasheetVersion: SLLS673A; PackageVersion: revE, Dec-2001; PackageReference: DB16; PackageDescription: 16-Pin Plastic Small Outline Package, 6.2 x 5.3 mm Body, 0.65 mm Pitch; SubFamily: RS-232; Receivers Per Package: 1; RS-232: TRUE; ComponentLink1Description: Manufacturer URL; ComponentLink1URL: www.ti.com; ComponentLink2Description: Datasheet; ComponentLink2URL: http://www.ti.com/general/docs/lit/getliterature.tsp?genericPartNumber=MAX3227&fileType=pdf; ComponentLink3Description: Package Specification; ComponentLink3URL: http://www.ti.com/litv/pdf/msso002e
footprint TI-DB16_N (SOP, 16-Leads, Body 6.2x5.3mm, Pitch 0.65mm, IPC Medium Density)
footprint TI-DB16_L (SOP, 16-Leads, Body 6.2x5.3mm, Pitch 0.65mm, IPC High Density)
footprint TI-DB16_M (SOP, 16-Leads, Body 6.2x5.3mm, Pitch 0.65mm, IPC Low Density)
pins: 1 READY (out) "Ready to transmit output, active high. READY is enabled high when V- goes below -3.5 V and the device is ready to transmit.", 2 C1+ "Positive terminal of voltage-doubler charge-pump capacitor", 3 V+ (power) "+2 × VCC generated by the charge pump", 4 C1- "Negative terminal of voltage-doubler charge-pump capacitor", 5 C2+ "Positive terminal of inverting charge-pump capacitor", 6 C2- "Negative terminal of inverting charge-pump capacitor", 7 V- (power) "-2 × VCC generated by the charge pump", 8 RIN (in) "RS-232 receiver input", 9 ROUT (out) "CMOS receiver output", 10 ~{INVALID} (out) "Valid signal detector output, active low. A logic high indicates that a valid RS-232 level is present on a receiver input", 11 DIN (in) "CMOS driver input", 12 FORCEON (in) "Force-on input, active high. Drive high to override powerdown, keeping drivers and receivers on (FORCEOFF must be high) (see Function Table).", 13 DOUT (hiz) "RS-232 driver output", 14 GND (power) "Ground", 15 VCC (power) "3-V to 5.5-V single-supply voltage", 16 ~{FORCEOFF} (in) "Force-off input, active low. Drive low to shut down drivers, receivers, and charge pump. This overrides auto shutdown and FORCEON (see Function Table)."

## MAX3227IDBR
designator U?
3-V to 5.5-V Single-Channel RS-232 Line Driver / Receiver with ±15-kV ESD Protection, -40 to 85 degC, 16-Pin SSOP (DB), Green (RoHS & no Sb/Br); Drivers Per Package: 1; Supply Voltage(s)(V): 3.3 or 5.0; ESD HBM(kV): +/-15; ICC(Max)(mA): 2; Single Supply: TRUE; DatasheetVersion: SLLS673A; PackageVersion: revE, Dec-2001; PackageReference: DB16; PackageDescription: 16-Pin Plastic Small Outline Package, 6.2 x 5.3 mm Body, 0.65 mm Pitch; SubFamily: RS-232; Receivers Per Package: 1; RS-232: TRUE; ComponentLink1Description: Manufacturer URL; ComponentLink1URL: www.ti.com; ComponentLink2Description: Datasheet; ComponentLink2URL: http://www.ti.com/general/docs/lit/getliterature.tsp?genericPartNumber=MAX3227&fileType=pdf; ComponentLink3Description: Package Specification; ComponentLink3URL: http://www.ti.com/litv/pdf/msso002e
footprint TI-DB16_N (SOP, 16-Leads, Body 6.2x5.3mm, Pitch 0.65mm, IPC Medium Density)
footprint TI-DB16_L (SOP, 16-Leads, Body 6.2x5.3mm, Pitch 0.65mm, IPC High Density)
footprint TI-DB16_M (SOP, 16-Leads, Body 6.2x5.3mm, Pitch 0.65mm, IPC Low Density)
pins: 1 READY (out) "Ready to transmit output, active high. READY is enabled high when V- goes below -3.5 V and the device is ready to transmit.", 2 C1+ "Positive terminal of voltage-doubler charge-pump capacitor", 3 V+ (power) "+2 × VCC generated by the charge pump", 4 C1- "Negative terminal of voltage-doubler charge-pump capacitor", 5 C2+ "Positive terminal of inverting charge-pump capacitor", 6 C2- "Negative terminal of inverting charge-pump capacitor", 7 V- (power) "-2 × VCC generated by the charge pump", 8 RIN (in) "RS-232 receiver input", 9 ROUT (out) "CMOS receiver output", 10 ~{INVALID} (out) "Valid signal detector output, active low. A logic high indicates that a valid RS-232 level is present on a receiver input", 11 DIN (in) "CMOS driver input", 12 FORCEON (in) "Force-on input, active high. Drive high to override powerdown, keeping drivers and receivers on (FORCEOFF must be high) (see Function Table).", 13 DOUT (hiz) "RS-232 driver output", 14 GND (power) "Ground", 15 VCC (power) "3-V to 5.5-V single-supply voltage", 16 ~{FORCEOFF} (in) "Force-off input, active low. Drive low to shut down drivers, receivers, and charge pump. This overrides auto shutdown and FORCEON (see Function Table)."

## MAX3227IDBRE4
designator U?
3-V to 5.5-V Single-Channel RS-232 Line Driver / Receiver with ±15-kV ESD Protection, -40 to 85 degC, 16-Pin SSOP (DB), Green (RoHS & no Sb/Br); Drivers Per Package: 1; Supply Voltage(s)(V): 3.3 or 5.0; ESD HBM(kV): +/-15; ICC(Max)(mA): 2; Single Supply: TRUE; DatasheetVersion: SLLS673A; PackageVersion: revE, Dec-2001; PackageReference: DB16; PackageDescription: 16-Pin Plastic Small Outline Package, 6.2 x 5.3 mm Body, 0.65 mm Pitch; SubFamily: RS-232; Receivers Per Package: 1; RS-232: TRUE; ComponentLink1Description: Manufacturer URL; ComponentLink1URL: www.ti.com; ComponentLink2Description: Datasheet; ComponentLink2URL: http://www.ti.com/general/docs/lit/getliterature.tsp?genericPartNumber=MAX3227&fileType=pdf; ComponentLink3Description: Package Specification; ComponentLink3URL: http://www.ti.com/litv/pdf/msso002e
footprint TI-DB16_N (SOP, 16-Leads, Body 6.2x5.3mm, Pitch 0.65mm, IPC Medium Density)
footprint TI-DB16_L (SOP, 16-Leads, Body 6.2x5.3mm, Pitch 0.65mm, IPC High Density)
footprint TI-DB16_M (SOP, 16-Leads, Body 6.2x5.3mm, Pitch 0.65mm, IPC Low Density)
pins: 1 READY (out) "Ready to transmit output, active high. READY is enabled high when V- goes below -3.5 V and the device is ready to transmit.", 2 C1+ "Positive terminal of voltage-doubler charge-pump capacitor", 3 V+ (power) "+2 × VCC generated by the charge pump", 4 C1- "Negative terminal of voltage-doubler charge-pump capacitor", 5 C2+ "Positive terminal of inverting charge-pump capacitor", 6 C2- "Negative terminal of inverting charge-pump capacitor", 7 V- (power) "-2 × VCC generated by the charge pump", 8 RIN (in) "RS-232 receiver input", 9 ROUT (out) "CMOS receiver output", 10 ~{INVALID} (out) "Valid signal detector output, active low. A logic high indicates that a valid RS-232 level is present on a receiver input", 11 DIN (in) "CMOS driver input", 12 FORCEON (in) "Force-on input, active high. Drive high to override powerdown, keeping drivers and receivers on (FORCEOFF must be high) (see Function Table).", 13 DOUT (hiz) "RS-232 driver output", 14 GND (power) "Ground", 15 VCC (power) "3-V to 5.5-V single-supply voltage", 16 ~{FORCEOFF} (in) "Force-off input, active low. Drive low to shut down drivers, receivers, and charge pump. This overrides auto shutdown and FORCEON (see Function Table)."